# Altium footprint library Discrete_Semiconductor.PcbLib: 10 footprints
Each footprint in its own frame and in the unit in brackets; x right, y up, seen from the top. Pads: shape width x height; smd on the part's side, far side on the other; paste and mask are expansions set on the pad; w line width, h text height; cw(c..) or ccw(c..) is an arc to the next point about the centre after c.
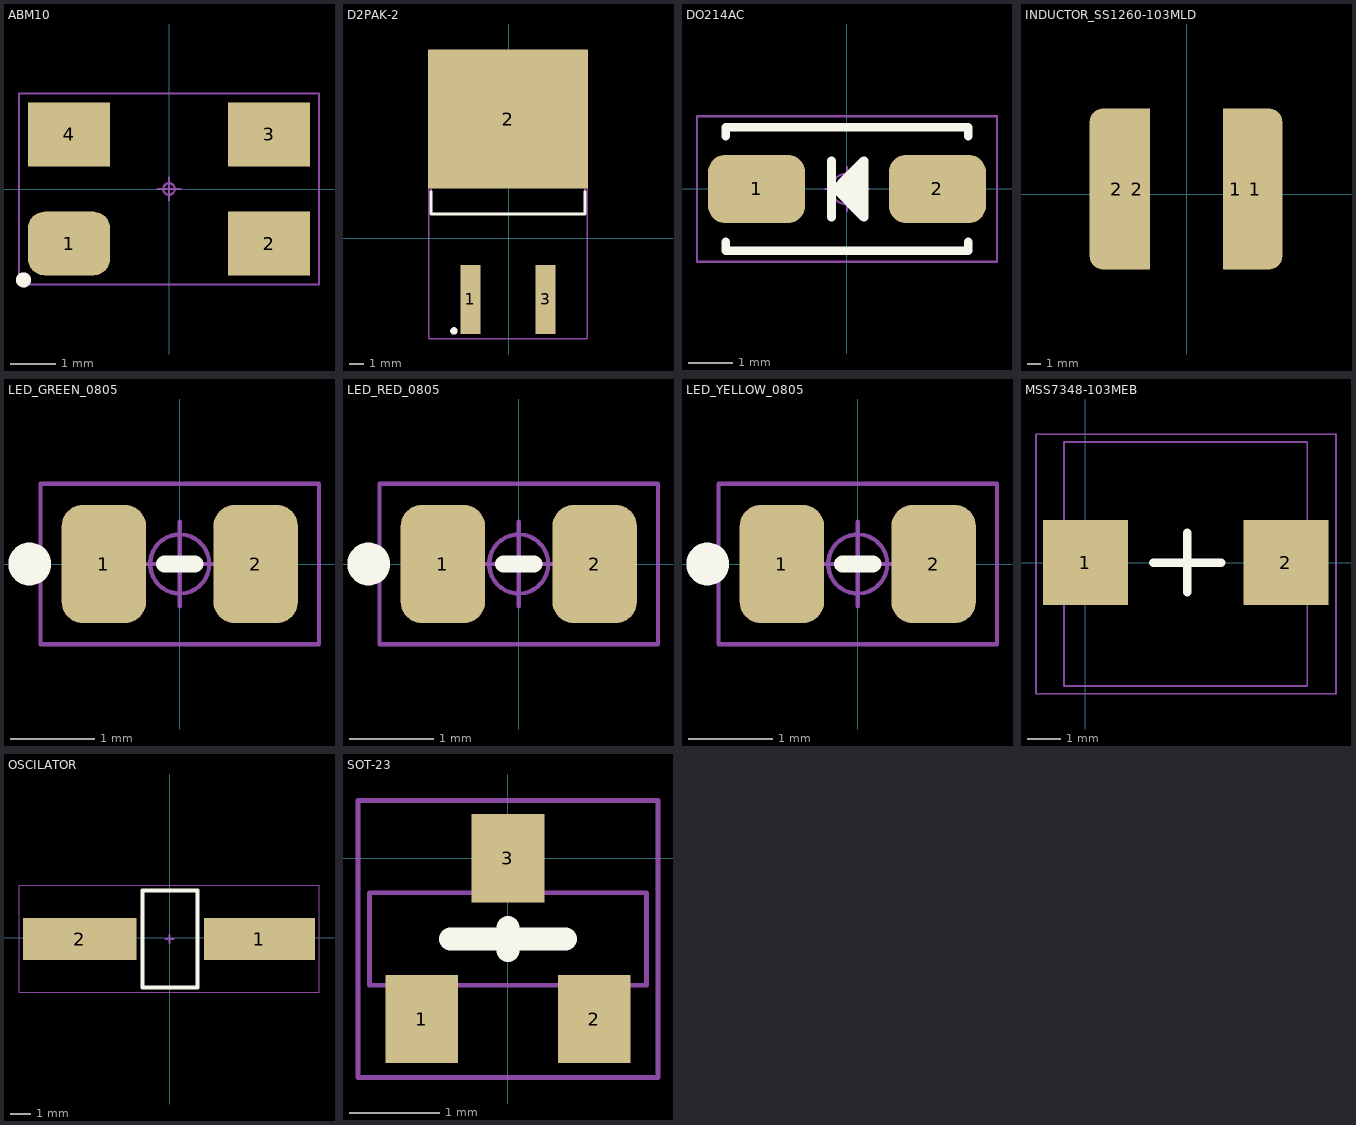
[diagram p0: the footprints below, top view; thin cyan lines are the x and y axes]

## ABM10 [mm] "0.098\" L x 0.079\" W (2.50mm x 2.00mm)"
height 0.7
pads (4):
  rrect50% 1.8x1.4 smd: 1(-2.2,-1.2)
  rect 1.8x1.4 smd: 2(2.2,-1.2) 3(2.2,1.2) 4(-2.2,1.2)
Top Overlay:
  circle w0.254: c-3.2,-2 r0.038
Mechanical 15:
  circle w0.051: c0,0 r0.127
  lines w0.051: -0.254,0 0.254,0 ; 0,-0.254 0,0.254 ; -3.3,-2.1 -3.3,2.1 3.3,2.1 3.3,-2.1 -3.3,-2.1
3D body "User Library-ABMM2.STEP": height 1.21, standoff 0, extent -3,-1.7 3,1.9

## D2PAK-2 [mil]
height 51.18
pads (3):
  rect 54x183 smd: 1(-102.5,-163.06) 3(97.5,-163.06)
  rect 426x370 smd: 2(-2.5,316.8)
Top Overlay:
  circle w9.84: c-146.4,-246.82 r4.92
  lines w7.87: -207.22,123.88 -207.22,64.83 202.22,64.83 202.22,123.88
Mechanical 13:
  lines w3.94: -207.22,64.83 202.22,64.83 202.22,434.91 -207.22,434.91 -207.22,64.83
Mechanical 15:
  lines w3.94: -22.18,179 17.18,179 ; -2.5,159.31 -2.5,198.69 ; -213.13,-268.3 208.13,-268.3 208.13,497.9 -213.13,497.9 -213.13,-268.3
3D body "D2PAK.STEP": height 190.16, standoff -0.01, extent -212.04,-180 208.04,445.2

## DO214AC [mm] "Diode,Molded Body;5.105mm L X 2.665mm W X 2.29mm H"
height 2.29
pads (2):
  rrect50% 2.2x1.55 smd: 1(-2.05,0) 2(2.05,0)
Top Overlay:
  lines w0.2: -2.75,-1.2 -2.75,-1.4 2.75,-1.4 2.75,-1.2 ; -2.75,1.2 -2.75,1.4 2.75,1.4 2.75,1.2
  lines w0.203: -0.356,-0.635 -0.356,0.635 ; -0.127,0.127 0.381,0.635 0.381,-0.635 -0.254,0 0.254,0.508 0.254,-0.381 -0.127,0 0.127,0.254 0.127,-0.127 0.033,-0.033 -0.094,-0.033
Mechanical 15:
  circle w0.05: c0,0 r0.35
  lines w0.05: -0.5,0 0.5,0 ; 0,-0.5 0,0.5 ; -3.4,-1.65 -3.4,1.65 3.4,1.65 3.4,-1.65 -3.4,-1.65
3D body "DIOM5528X26-DO-214AC.step": height 2.6, standoff 0.03, extent -2.75,-1.4 2.75,1.4

## INDUCTOR_SS1260-103MLD [mil]
pads (4):
  rect 75x472.44 smd: 1(144,15) 2(-144,15)
  rrect50% 157.48x472.44 smd: 1(202,15) 2(-205,15)
3D body "User Library-DRQ127_12_5x12_5.step": height 315.28, standoff 0.32, extent -247.06,-231 245.06,261.13

## LED_GREEN_0805 [mm] "Diode GREEN;2.00mm L X 1.25mm W X 1.20mm H"
height 1.2
pads (2):
  rrect50% 1x1.4 smd: 1(-0.9,0) 2(0.9,0)
Top Overlay:
  circle w0.254: c-1.778,0 r0.127
  lines w0.203: -0.178,0 0.178,0
Mechanical 15:
  circle w0.05: c0,0 r0.35
  lines w0.05: -0.5,0 0.5,0 ; 0,-0.5 0,0.5 ; -1.65,-0.95 1.65,-0.95 1.65,0.95 -1.65,0.95 -1.65,-0.95
3D body "led_0805_green.step": height 1.1, standoff 0, extent -1.01,-0.625 1.01,0.625

## LED_RED_0805 [mm] "Diode 2.00mm L X 1.25mm W X 1.20mm H"
height 1.2
pads (2):
  rrect50% 1x1.4 smd: 1(-0.9,0) 2(0.9,0)
Top Overlay:
  circle w0.254: c-1.778,0 r0.127
  lines w0.203: -0.178,0 0.178,0
Mechanical 15:
  circle w0.05: c0,0 r0.35
  lines w0.05: -0.5,0 0.5,0 ; 0,-0.5 0,0.5 ; -1.65,-0.95 1.65,-0.95 1.65,0.95 -1.65,0.95 -1.65,-0.95
3D body "CHIPLED-0805-RED.step": height 0.9, standoff -0.01, extent -1.05,-0.675 1.05,0.675

## LED_YELLOW_0805 [mm] "Diode YELLOW;2.00mm L X 1.25mm W X 1.20mm H"
height 1.2
pads (2):
  rrect50% 1x1.4 smd: 1(-0.9,0) 2(0.9,0)
Top Overlay:
  circle w0.254: c-1.778,0 r0.127
  lines w0.203: -0.178,0 0.178,0
Mechanical 15:
  circle w0.05: c0,0 r0.35
  lines w0.05: -0.5,0 0.5,0 ; 0,-0.5 0,0.5 ; -1.65,-0.95 1.65,-0.95 1.65,0.95 -1.65,0.95 -1.65,-0.95
3D body "led_0805_yellow.step": height 1.1, standoff 0, extent -1.01,-0.625 1.01,0.625

## MSS7348-103MEB [mil]
pads (2):
  rect 100x100 smd: 1(0,0) 2(236,0)
Top Overlay:
  lines w10: 80,0 160,0 ; 120,-35 120,35
Mechanical 13:
  lines w2: -25,-145 -25,142 261,142 261,-145 -25,-145
Mechanical 15:
  lines w2: -58,-154 295,-154 295,151 -58,151 -58,-154
3D body "Coilcraft-MSS7348.step": height 190.04, standoff 1.06, extent -25.95,-144.95 261.96,142.96

## OSCILATOR [mil]
height 51.18
pads (2):
  rect 210x80 smd: 1(170,-2)
  rect 215x80 smd: 2(-170,-2)
Top Overlay:
  lines w7.87: -51,-94 53,-94 53,90 -51,90 -51,-94
Mechanical 1:
  lines w3.94: -7.87,-2 7.87,-2 ; 0,-9.87 0,5.87
Mechanical 15:
  lines w2: -285,-103 -285,100 283,100 283,-103 -285,-103
3D body "Crystal HC49_US-SM.STEP": height 169.29, standoff 0, extent -251,-95 252.94,95.16

## SOT-23 [mm]
pads (3):
  rect 0.802x0.972 smd: 1(-0.95,-1.77) 2(0.95,-1.77) 3(0,0)
Top Overlay:
  lines w0.254: -0.635,-0.889 0.635,-0.889 ; 0,-1.016 0,-0.762
Mechanical 13:
  lines w0.051: -1.524,-1.397 1.524,-1.397 1.524,-0.381 -1.524,-0.381 -1.524,-1.397
Mechanical 15:
  lines w0.051: -1.651,-2.413 -1.651,0.635 1.651,0.635 1.651,-2.413 -1.651,-2.413
3D body "CircuitWorks-SOT-23.step": height 1.11, standoff 0.01, extent -1.5,-2.139 1.5,0.361